# Altium schematic symbol library PMR18EZPFV2L00.SchLib: 1 symbol
Pins are listed as number, name and electrical type; pins without a type are passive.

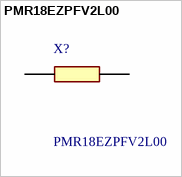
[diagram p0: symbol PMR18EZPFV2L00]

## PMR18EZPFV2L00
designator X?
3216(1206)Size, Ultra-low Ohmic Chip Resistors For Current Detection (AEC-Q200 Qualified); Manufacturer_Name: ROHM Semiconductor; Geometry.Height: 0.59mm; Mouser Part Number: 755-PMR18EZPFV2L00; Mouser Price/Stock: https://www.mouser.co.uk/ProductDetail/ROHM-Semiconductor/PMR18EZPFV2L00?qs=oBjDkOCjPF3F%252BxFCsdw8aQ%3D%3D; Manufacturer_Part_Number: PMR18EZPFV2L00; Datasheet Link: https://fscdn.rohm.com/en/products/databook/datasheet/passive/resistor/chip_resistor/pmr_series-e.pdf
footprint RESC3216X59N
pins: 1, 2